# EAGLE library part L293D (library PiDemo_Parts)
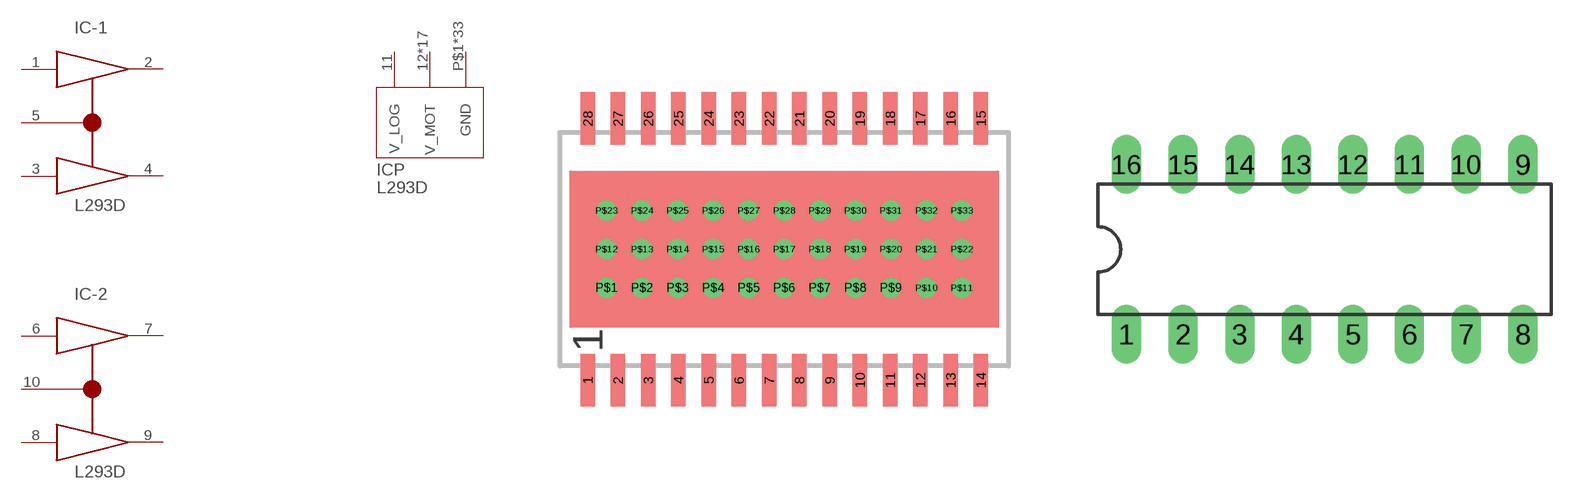
[diagram p1: symbol with the pads of HSOP28; footprints HSOP28, DIL16]

Designator prefix IC; gates -1=BRIDGE -2=BRIDGE P=POWER_P

## L293D  [HSOP28]
1  -1:AIN
2  -1:AOUT
3  -1:BIN
4  -1:BOUT
5  -1:EN
6  -2:AIN
7  -2:AOUT
8  -2:BIN
9  -2:BOUT
10  -2:EN
11  P:V_LOG  pwr
12  P:V_MOT  pwr
13  P:V_MOT  pwr
14  P:V_MOT  pwr
15  P:V_MOT  pwr
16  P:V_MOT  pwr
17  P:V_MOT  pwr
18  P:V_MOT  pwr
19  P:V_MOT  pwr
20  P:V_MOT  pwr
21  P:V_MOT  pwr
22  P:V_MOT  pwr
23  P:V_MOT  pwr
24  P:V_MOT  pwr
25  P:V_MOT  pwr
26  P:V_MOT  pwr
27  P:V_MOT  pwr
28  P:V_MOT  pwr
P$1  P:GND  pwr
P$2  P:GND  pwr
P$3  P:GND  pwr
P$4  P:GND  pwr
P$5  P:GND  pwr
P$6  P:GND  pwr
P$7  P:GND  pwr
P$8  P:GND  pwr
P$9  P:GND  pwr
P$10  P:GND  pwr
P$11  P:GND  pwr
P$12  P:GND  pwr
P$13  P:GND  pwr
P$14  P:GND  pwr
P$15  P:GND  pwr
P$16  P:GND  pwr
P$17  P:GND  pwr
P$18  P:GND  pwr
P$19  P:GND  pwr
P$20  P:GND  pwr
P$21  P:GND  pwr
P$22  P:GND  pwr
P$23  P:GND  pwr
P$24  P:GND  pwr
P$25  P:GND  pwr
P$26  P:GND  pwr
P$27  P:GND  pwr
P$28  P:GND  pwr
P$29  P:GND  pwr
P$30  P:GND  pwr
P$31  P:GND  pwr
P$32  P:GND  pwr
P$33  P:GND  pwr

## L293DN  [DIL16]
1  -1:AIN
2  -1:AOUT
3  -1:BIN
4  -1:BOUT
5  -1:EN
6  -2:AIN
7  -2:AOUT
8  -2:BIN
9  -2:BOUT
10  -2:EN
11  P:GND  pwr
12  P:GND  pwr
13  P:GND  pwr
14  P:GND  pwr
15  P:V_LOG  pwr
16  P:V_MOT  pwr

## Footprint HSOP28 (pad centres in mm)
smd 0.6 x 2.2: 1 -8.255,-5.5; 2 -6.985,-5.5; 3 -5.715,-5.5; 4 -4.445,-5.5; 5 -3.175,-5.5; 6 -1.905,-5.5; 7 -0.635,-5.5; 8 0.635,-5.5; 9 1.905,-5.5; 10 3.175,-5.5; 11 4.445,-5.5; 12 5.715,-5.5; 13 6.985,-5.5; 14 8.255,-5.5; 15 8.255,5.5; 16 6.985,5.5; 17 5.715,5.5; 18 4.445,5.5; 19 3.175,5.5; 20 1.905,5.5; 21 0.635,5.5; 22 -0.635,5.5; 23 -1.905,5.5; 24 -3.175,5.5; 25 -4.445,5.5; 26 -5.715,5.5; 27 -6.985,5.5; 28 -8.255,5.5
drill 0.33: P$1 -7.463,-1.625; P$2 -5.97,-1.625; P$3 -4.478,-1.625; P$4 -2.985,-1.625; P$5 -1.492,-1.625; P$6 0,-1.625; P$7 1.492,-1.625; P$8 2.985,-1.625; P$9 4.478,-1.625; P$10 5.97,-1.625; P$11 7.463,-1.625; P$12 -7.463,0; P$13 -5.97,0; P$14 -4.478,0; P$15 -2.985,0; P$16 -1.492,0; P$17 0,0; P$18 1.492,0; P$19 2.985,0; P$20 4.478,0; P$21 5.97,0; P$22 7.463,0; P$23 -7.463,1.625; P$24 -5.97,1.625; P$25 -4.478,1.625; P$26 -2.985,1.625; P$27 -1.492,1.625; P$28 0,1.625; P$29 1.492,1.625; P$30 2.985,1.625; P$31 4.478,1.625; P$32 5.97,1.625; P$33 7.463,1.625

## Footprint DIL16 (pad centres in mm)
Dual In Line Package
drill 0.813 long: 1 -8.89,-3.81; 2 -6.35,-3.81; 3 -3.81,-3.81; 4 -1.27,-3.81; 5 1.27,-3.81; 6 3.81,-3.81; 7 6.35,-3.81; 8 8.89,-3.81; 9 8.89,3.81; 10 6.35,3.81; 11 3.81,3.81; 12 1.27,3.81; 13 -1.27,3.81; 14 -3.81,3.81; 15 -6.35,3.81; 16 -8.89,3.81